# Altium schematic symbol library LED Drivers & Controllers.SchLib: 4 symbols
Pins are listed as number, name and electrical type; pins without a type are passive.

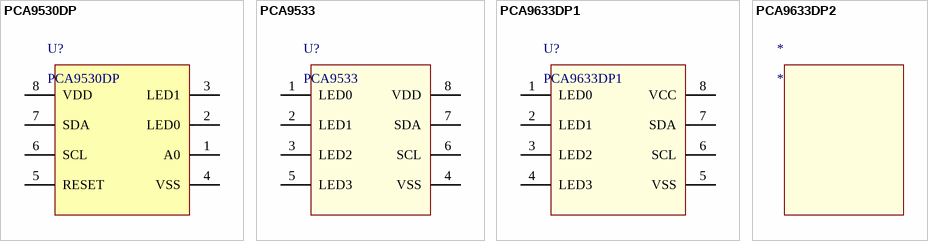
[diagram p0: symbols PCA9530DP to PCA9633DP2]

## PCA9530DP
designator U?
footprint TSSOP8 (TSOP, 8-Leads, Body 3.00x3.00mm, Pitch 0.65mm, IPC High Density)
pins: 1 A0, 2 LED0, 3 LED1, 4 VSS, 5 RESET, 6 SCL, 7 SDA, 8 VDD

## PCA9533
designator U?
footprint TSSOP8 (TSOP, 8-Leads, Body 3.00x3.00mm, Pitch 0.65mm, IPC Medium Density)
pins: 1 LED0, 2 LED1, 3 LED2, 4 VSS, 5 LED3, 6 SCL, 7 SDA, 8 VDD

## PCA9633DP1
designator U?
footprint TSSOP8 (TSOP, 8-Leads, Body 3.00x3.00mm, Pitch 0.65mm, IPC Medium Density)
pins: 1 LED0, 2 LED1, 3 LED2, 4 LED3, 5 VSS, 6 SCL, 7 SDA, 8 VCC

## PCA9633DP2
designator *